# Altium footprint library TO92.PcbLib: 1 footprints
Each footprint in its own frame and in the unit in brackets; x right, y up, seen from the top. Pads: shape width x height; smd on the part's side, far side on the other; paste and mask are expansions set on the pad; w line width, h text height; cw(c..) or ccw(c..) is an arc to the next point about the centre after c.
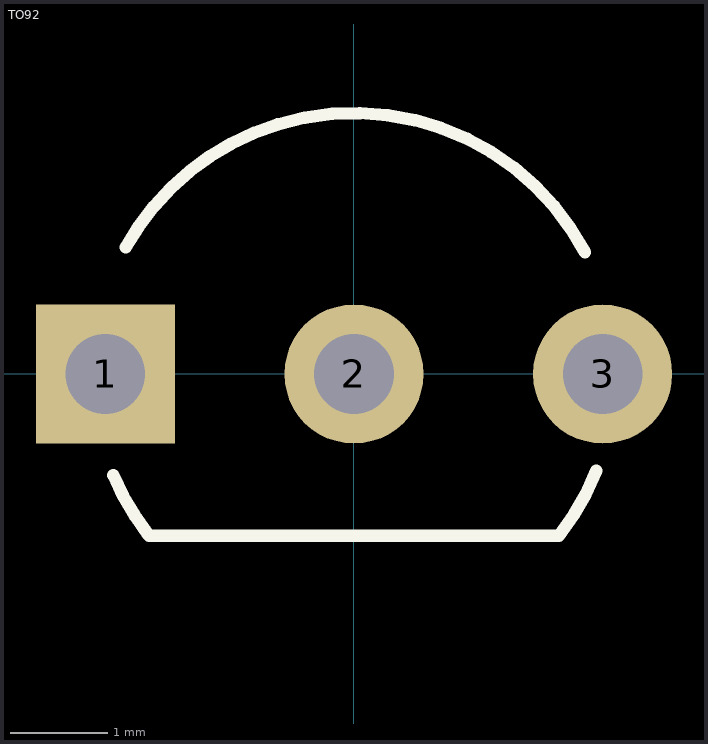
[diagram p0: the footprint, top view; thin cyan lines are the x and y axes]

## TO92 [mil]
pads (3):
  rect 56x56 / inner round 56 / far side rect 56x56 hole 32: 1(-100,0)
  round 56 hole 32: 2(0,0) 3(100,0)
Top Overlay:
  lines w5: -96.77,-40.75 ccw(c0,0) -82.74,-64.65 ; -91.79,50.99 cw(c0,0) -30.7,100.41 cw(c0,0) 92.92,48.9 ; -82.46,-65 82.46,-65 ccw(c0,0) 97.49,-39
3D body "step_temp.STEP": height 209.84, standoff -500, extent -102.36,-57.67 102.37,107.41